# EAGLE library part SPARKFUN-IC-LOGIC_CD4017 (library SECTION C)
10-Out Decade Counter Datasheet <https://cdn.sparkfun.com/datasheets/Kits/cd4022b.pdf> SparkFun Products SparkFun SparkPunk Sequencer Kit <https://www.sparkfun.com/products/12707> (KIT-12707)
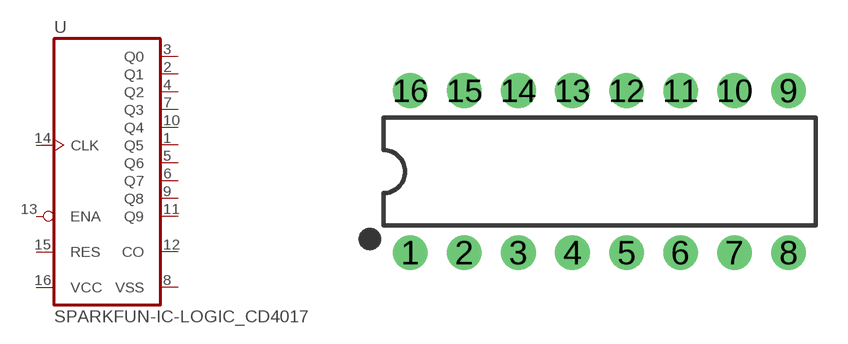
[diagram p0: symbol with the pads of SPARKFUN-IC-LOGIC_DIP16; footprint SPARKFUN-IC-LOGIC_DIP16]

Designator prefix U

## SPARKFUN-IC-LOGIC_CD4017 (PROD_ID: IC-11929; VALUE: CD4017)  [SPARKFUN-IC-LOGIC_DIP16]
1  Q5  out
2  Q1  out
3  Q0  out
4  Q2  out
5  Q6  out
6  Q7  out
7  Q3  out
8  VSS
9  Q8  out
10  Q4  out
11  Q9  out
12  CO  out
13  ENA  in
14  CLK  in
15  RES  in
16  VCC

## Footprint SPARKFUN-IC-LOGIC_DIP16 (pad centres in mm)
Dual In Line Package
drill 0.813 pad 1.626: 1 -8.89,-3.81; 2 -6.35,-3.81; 3 -3.81,-3.81; 4 -1.27,-3.81; 5 1.27,-3.81; 6 3.81,-3.81; 7 6.35,-3.81; 8 8.89,-3.81; 9 8.89,3.81; 10 6.35,3.81; 11 3.81,3.81; 12 1.27,3.81; 13 -1.27,3.81; 14 -3.81,3.81; 15 -6.35,3.81; 16 -8.89,3.81